# Altium footprint library IMX6PCBlib.PcbLib: 72 footprints (part 3 of 5)
Each footprint in its own frame and in the unit in brackets; x right, y up, seen from the top. Pads: shape width x height; smd on the part's side, far side on the other; paste and mask are expansions set on the pad; w line width, h text height; cw(c..) or ccw(c..) is an arc to the next point about the centre after c.
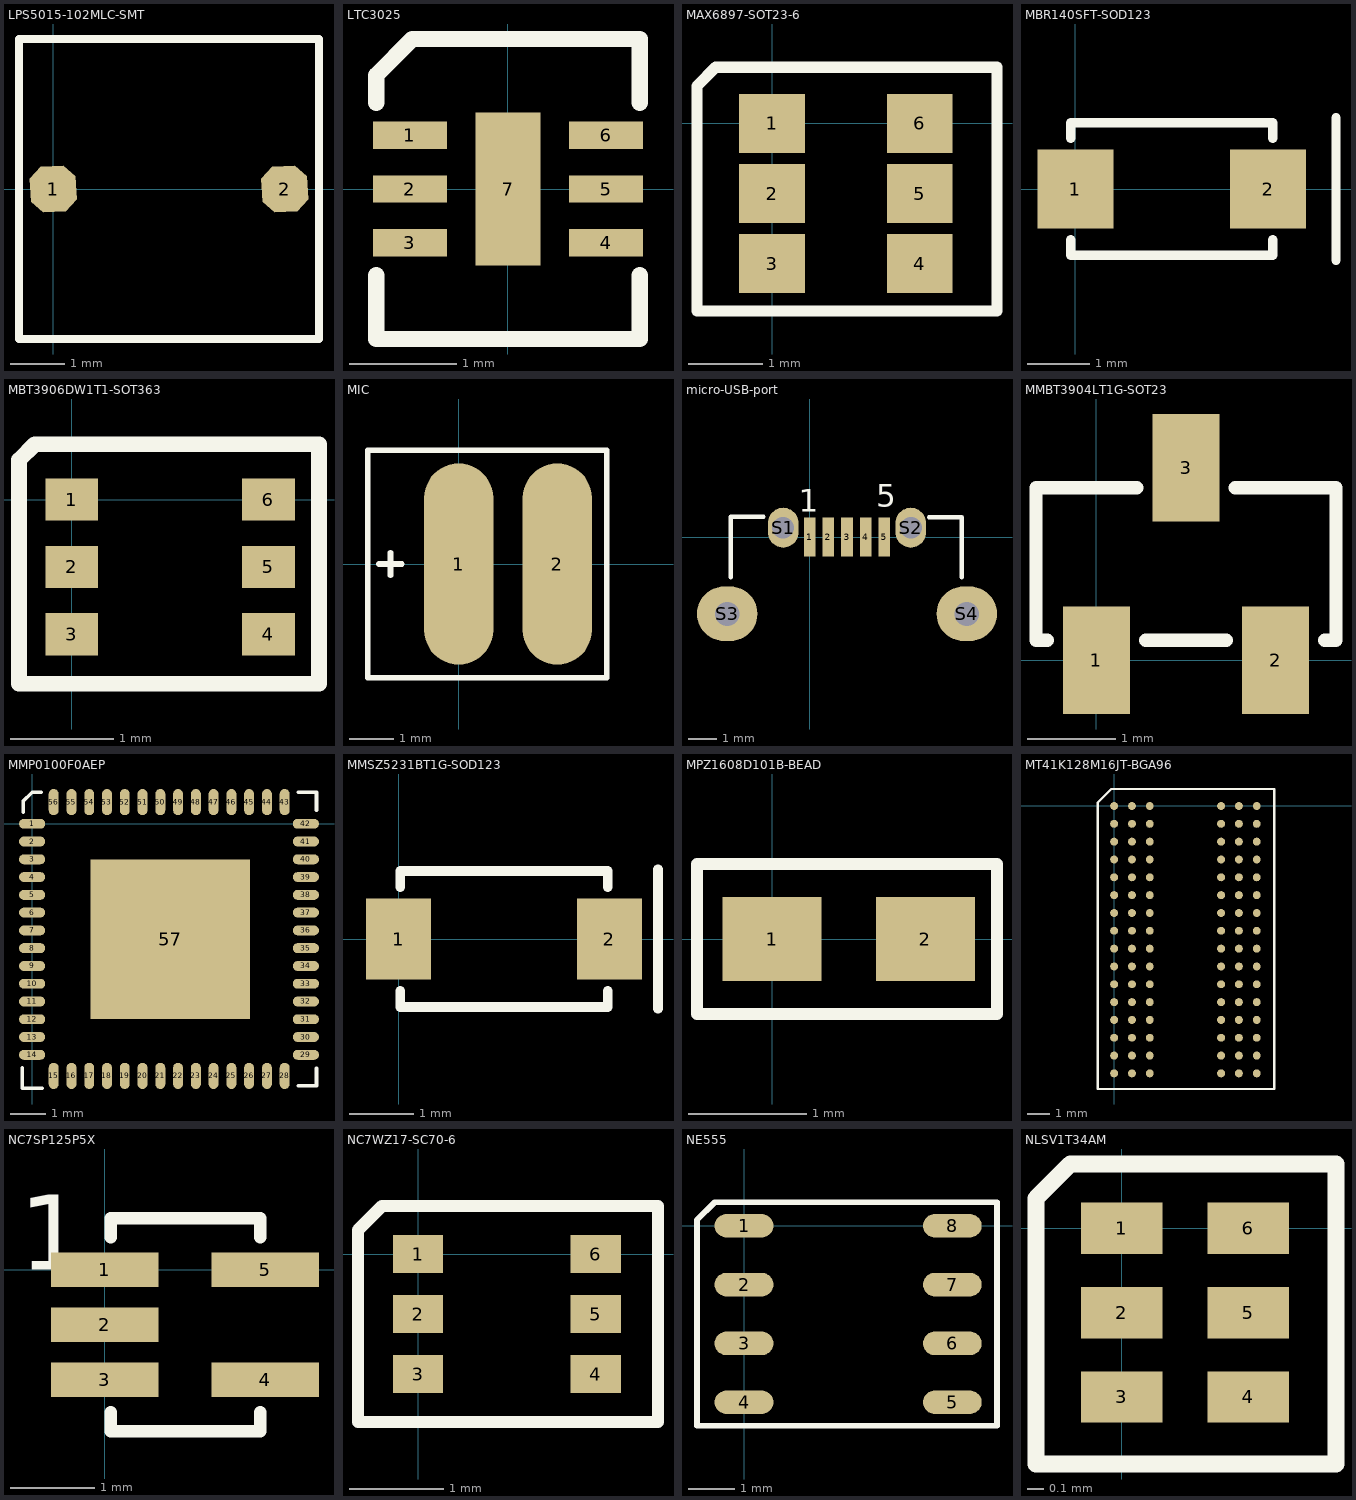
[diagram p2: the footprints below, top view; thin cyan lines are the x and y axes]

## LPS5015-102MLC-SMT [mil]
pads (2):
  oct 33.3x33.3 smd rot 3: 1(0,0) 2(167.32,0)
Top Overlay:
  lines w6: -24.77,-108.43 -24.77,108.43 192.09,108.43 192.09,-108.43 -24.77,-108.43

## LTC3025 [mil]
pads (7):
  rect 27x10 smd: 1(-35.88,19.69) 2(-35.88,0) 3(-35.88,-19.69) 4(36,-19.69) 5(36,0) 6(36,19.69)
  rect 24x56 smd: 7(0.06,0)
Top Overlay:
  lines w6: -48.29,-31.61 -48.29,-55 48.41,-55 48.41,-31.61 ; -48.29,31.61 -48.29,41.71 -35,55 48.41,55 48.41,31.61

## MAX6897-SOT23-6 [mil]
pads (6):
  rect 35x31.5 smd: 1(0,0) 2(0,-37.4) 3(0,-74.8) 4(78.74,-74.8) 5(78.74,-37.4) 6(78.74,0)
Top Overlay:
  lines w6: -40,-100 120,-100 120,30 -30,30 -40,20 -40,-100

## MBR140SFT-SOD123 [mil]
pads (2):
  rect 48x50 smd: 1(0,0) 2(122,0)
Top Overlay:
  lines w6: -3,-32 -3,-42 125,-42 125,-32 ; -3,32 -3,42 125,42 125,32 ; 165,-45 165,45

## MBT3906DW1T1-SOT363 [mil]
pads (6):
  rect 20x16 smd: 1(0,0) 2(0,-25.6) 3(0,-51.2) 4(74.8,-51.2) 5(74.8,-25.6) 6(74.8,0)
Top Overlay:
  lines w6: -20,-70 94,-70 94,21 -14,21 -20,15 -20,-70

## MIC [mil]
pads (2):
  oval 60.74x177 smd: 1(0,0) 2(86.61,0)
Top Overlay:
  lines w5: -70,0 -50,0 ; -60,-10 -60,10 ; -80,-100 -80,100 130,100 130,-100 -80,-100

## micro-USB-port [mil]
pads (9):
  rect 16x53 smd: 1(0,0) 2(25.59,0) 3(51.18,0) 4(76.77,0) 5(102.36,0)
  oval 42x55 hole 30 mask+2: S1(-36.42,12.8) S2(138.78,12.8)
  oval 83x75 hole 33: S3(-113.19,-105.31) S4(215.55,-105.31)
Top Overlay:
  lines w6: -108.27,-55.31 -108.27,27.76 -63.39,27.76 ; 163.78,27.37 208.66,27.37 208.66,-55.31
  text "5" at 91.25,41.84 h31
  text "1" at -15,35 h31

## MMBT3904LT1G-SOT23 [mil]
pads (3):
  rect 30x48 smd: 1(0,0) 2(80,0) 3(40,86)
Top Overlay:
  lines w6: -22,9 -27,9 -27,77 18,77 ; 22,9 58,9 ; 62,77 107,77 107,9 102,9

## MMP0100F0AEP [mil]
pads (57):
  oval 29x11 smd: 1(0,0) 2(0,-19.68) 3(0,-39.37) 4(0,-59.05) 5(0,-78.74) 6(0,-98.42) 7(0,-118.11) 8(0,-137.79) 9(0,-157.48) 10(0,-177.16) 11(0,-196.85) 12(0,-216.53) 13(0,-236.22) 14(0,-255.91) 29(303.28,-255.91) 30(303.28,-236.22) 31(303.28,-216.53) 32(303.28,-196.85) 33(303.28,-177.16) 34(303.28,-157.48) 35(303.28,-137.79) 36(303.28,-118.11) 37(303.28,-98.42) 38(303.28,-78.74) 39(303.28,-59.05) 40(303.28,-39.37) 41(303.28,-19.68) 42(303.28,0)
  oval 11x29 smd: 15(23.92,-279.27) 16(43.6,-279.27) 17(63.28,-279.27) 18(82.96,-279.27) 19(102.64,-279.27) 20(122.32,-279.27) 21(142,-279.27) 22(161.68,-279.27) 23(181.36,-279.27) 24(201.04,-279.27) 25(220.72,-279.27) 26(240.4,-279.27) 27(260.08,-279.27) 28(279.76,-279.27) 43(279.76,24) 44(260.08,24) 45(240.4,24) 46(220.72,24) 47(201.04,24) 48(181.36,24) 49(161.68,24) 50(142,24) 51(122.32,24) 52(102.64,24) 53(82.96,24) 54(63.28,24) 55(43.6,24) 56(23.92,24)
  rect 177x177 smd: 57(153,-128)
Top Overlay:
  lines w3.94: -11,-270 -11,-293 11,-293 ; -10,13 -10,25 0,35 10,35 ; 295,-290 306,-290 315,-290 315,-271 ; 295,35 315,35 315,15

## MMSZ5231BT1G-SOD123 [mil]
pads (2):
  rect 40x50 smd: 1(0,0) 2(130,0)
Top Overlay:
  lines w6: 1,-32 1,-42 129,-42 129,-32 ; 1,32 1,42 129,42 129,32 ; 160,-43 160,43

## MPZ1608D101B-BEAD [mil]
height 603
pads (2):
  rect 33x28 smd: 1(0,0) 2(51.14,0)
Top Overlay:
  lines w3.94: -25,-25 -25,25 75,25 75,-25 -25,-25

## MT41K128M16JT-BGA96 [mil]
pads (96):
  round 14 smd: A1(0,0) A2(31.5,0) A3(62.99,0) A7(188.98,0) A8(220.47,0) A9(251.97,0) B1(0,-31.5) B2(31.5,-31.5) B3(62.99,-31.5) B7(188.98,-31.5) B8(220.47,-31.5) B9(251.97,-31.5) C1(0,-62.99) C2(31.5,-62.99) C3(62.99,-62.99) C7(188.98,-62.99) C8(220.47,-62.99) C9(251.97,-62.99) D1(0,-94.49) D2(31.5,-94.49) D3(62.99,-94.49) D7(188.98,-94.49) D8(220.47,-94.49) D9(251.97,-94.49) E1(0,-125.98) E2(31.5,-125.98) E3(62.99,-125.98) E7(188.98,-125.98) E8(220.47,-125.98) E9(251.97,-125.98) F1(0,-157.48) F2(31.5,-157.48) F3(62.99,-157.48) F7(188.98,-157.48) F8(220.47,-157.48) F9(251.97,-157.48) G1(0,-188.98) G2(31.5,-188.98) G3(62.99,-188.98) G7(188.98,-188.98) G8(220.47,-188.98) G9(251.97,-188.98) H1(0,-220.47) H2(31.5,-220.47) H3(62.99,-220.47) H7(188.98,-220.47) H8(220.47,-220.47) H9(251.97,-220.47) J1(0,-251.97) J2(31.5,-251.97) J3(62.99,-251.97) J7(188.98,-251.97) J8(220.47,-251.97) J9(251.97,-251.97) K1(0,-283.46) K2(31.5,-283.46) K3(62.99,-283.46) K7(188.98,-283.46) K8(220.47,-283.46) K9(251.97,-283.46) L1(0,-314.96) L2(31.5,-314.96) L3(62.99,-314.96) L7(188.98,-314.96) L8(220.47,-314.96) L9(251.97,-314.96) M1(0,-346.46) M2(31.5,-346.46) M3(62.99,-346.46) M7(188.98,-346.46) M8(220.47,-346.46) M9(251.97,-346.46) N1(0,-377.95) N2(31.5,-377.95) N3(62.99,-377.95) N7(188.98,-377.95) N8(220.47,-377.95) N9(251.97,-377.95) P1(0,-409.45) P2(31.5,-409.45) P3(62.99,-409.45) P7(188.98,-409.45) P8(220.47,-409.45) P9(251.97,-409.45) R1(0,-440.94) R2(31.5,-440.94) R3(62.99,-440.94) R7(188.98,-440.94) R8(220.47,-440.94) R9(251.97,-440.94) T1(0,-472.44) T2(31.5,-472.44) T3(62.99,-472.44) T7(188.98,-472.44) T8(220.47,-472.44) T9(251.97,-472.44)
Top Overlay:
  lines w3.94: -29,-500 -5,-500 283,-500 283,30 -5,30 -29,6 -29,-500

## NC7SP125P5X [mil]
pads (5):
  rect 50x16 smd: 1(0,0) 2(0,-25.59) 3(0,-51.18) 4(74.8,-51.18) 5(74.8,0)
Top Overlay:
  lines w5.98: 2.75,-66.53 2.75,-75.2 72.44,-75.2 72.44,-66.53 ; 2.75,15.35 2.75,24.02 72.44,24.02 72.44,15.35
  text "1" at -40,0 h35

## NC7WZ17-SC70-6 [mil]
pads (6):
  rect 21x16 smd: 1(0,0) 2(0,-25) 3(0,-50) 4(74,-50) 5(74,-25) 6(74,0)
Top Overlay:
  lines w5: -25,-70 -25,10 -15,20 100,20 100,-70 -25,-70

## NE555 [mil]
pads (8):
  oval 50x20 smd: 1(0,0) 2(0,-50) 3(0,-100) 4(0,-150) 5(177,-150) 6(177,-100) 7(177,-50) 8(177,0)
Top Overlay:
  lines w5: -40,-170 -40,5 -25,20 215,20 215,-170 -30,-170 -40,-170

## NLSV1T34AM [mil]
pads (6):
  rect 19x12 smd: 1(0,0) 2(0,-19.68) 3(0,-39.36) 4(29.52,-39.36) 5(29.52,-19.68) 6(29.52,0)
Top Overlay:
  lines w3.94: -20,-55 50,-55 50,15 -12,15 -20,7 -20,-55